# Altium schematic symbol library Connectors.SchLib: 325 symbols (part 2 of 4)
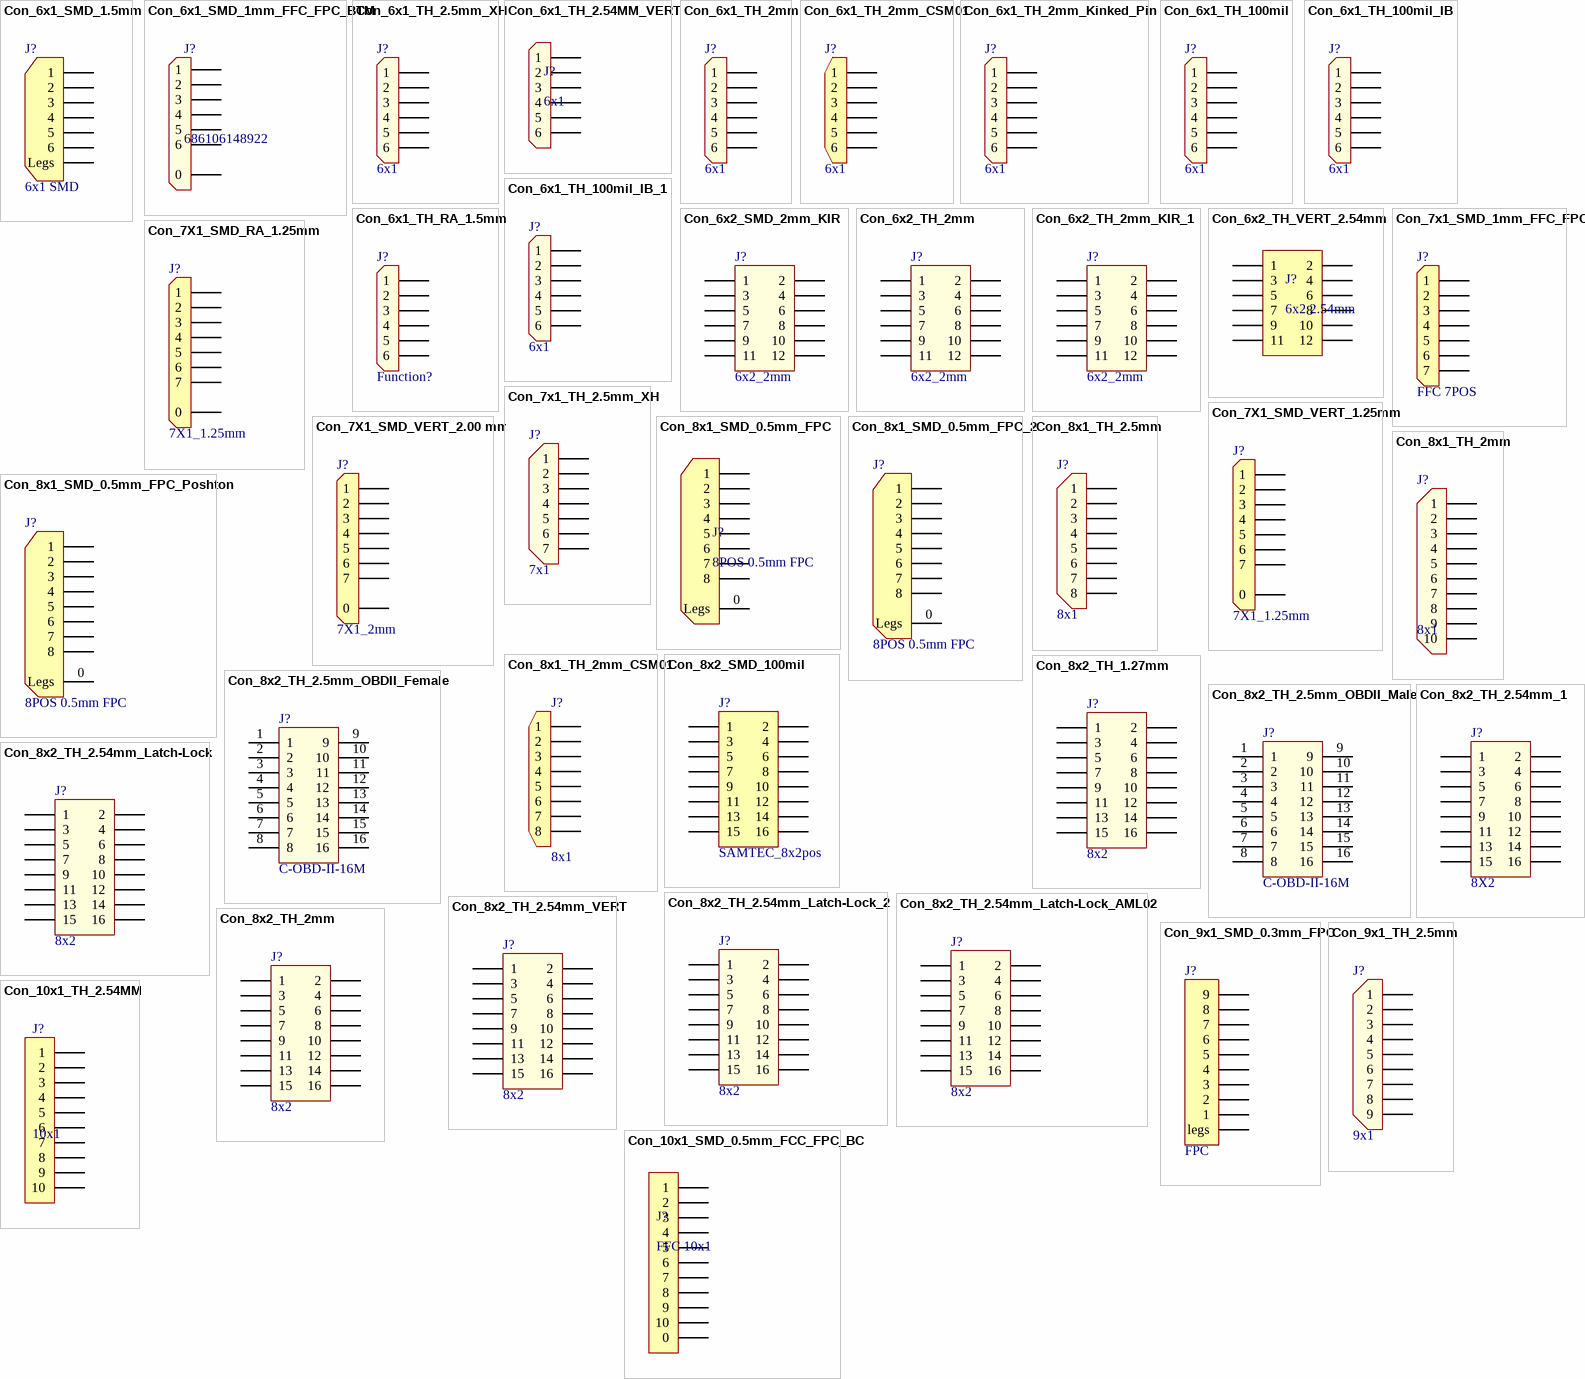
[diagram p10: symbols Con_6x1_SMD_1.5mm to Con_10x1_TH_2.54MM]

## Con_6x2_TH_2mm
designator J?, comment 6x2_2mm
CONN HEADER VERT 12POS 2MM; Manufacturer Part Number: 957212-6002-AR; Manufacturer: 3M; ComponentLink1URL: https://www.digikey.com/products/en?keywords=957212-6002-AR; Last modified date: 20240310; Last modified by: J.Jaramillo; Reel Stock: N/A; Supplier 1: Digi-Key; Supplier Part Number 1: 3M6475-ND; ComponentLink1Description: Digi-key; ComponentLink1URL: https://www.digikey.tw/products/en?keywords=3M6475-ND
footprint CON_6x2_TH_2MM (/ 20190410 / C-D.Viveros)
pins: 1, 2, 3, 4, 5, 6, 7, 8, 9, 10, 11, 12

## Con_6x2_TH_2mm_KIR_1
designator J?, comment 6x2_2mm
CONN HEADER VERT 12POS 2MM; Manufacturer Part Number: 957212-6002-AR; Manufacturer: 3M; ComponentLink1URL: https://www.digikey.com/products/en?keywords=957212-6002-AR; Last modified date: 20240310; Last modified by: J.Jaramillo; Reel Stock: N/A; Supplier 1: Digi-Key; Supplier Part Number 1: 3M6475-ND; ComponentLink1Description: Digi-key; ComponentLink1URL: https://www.digikey.tw/products/en?keywords=3M6475-ND
footprint CON_6x2_TH_2MM (/ 20190410 / C-D.Viveros)
pins: 1, 2, 3, 4, 5, 6, 7, 8, 9, 10, 11, 12

## Con_6x2_TH_VERT_2.54mm
designator J?, comment 6x2 2.54mm
CONN HEADER VERT 12POS 2.54MM; Manufacturer: Molex; Manufacturer Part Number: 0702461201; Supplier 1: Digi-Key; Supplier Part Number 1: 23-0702461201-ND; Reel Stock: N/A; Last modified by: J.Jaramillo; Last modified date: 20240310; ComponentLink1Description: Digi-Key; ComponentLink1URL: https://www.digikey.com/en/products/detail/molex/0702461201/760167?s=N4IgTCBcDaIOwAYwBYBsBaAjGBmQF0BfIA
footprint CON_6x2_TH_2.54MM (/20221117/J-A.Sepulveda)
pins: 1, 2, 3, 4, 5, 6, 7, 8, 9, 10, 11, 12

## Con_7x1_SMD_1mm_FFC_FPC
designator J?, comment FFC 7POS
CONN FPC TOP 7POS 1.00MM R/A; Manufacturer Part Number: 84953-7; Manufacturer: TE Connectivity AMP Connectors; Supplier Part Number 1: A101401CT-ND; Supplier 1: Digi-Key; ComponentLink1URL: https://www.digikey.com/en/products/detail/te-connectivity-amp-connectors/84953-7/2272440?s=N4IgTCBcDaIIIEYAMCAsKDCAVAtAOQBEQBdAXyA; Last modified date: 20240310; Last modified by: J.Jaramillo; Reel Stock: N/A; ComponentLink1Description: Digi-key; ComponentLink1URL: https://www.digikey.com/products/en?keywords=A101401CT-ND
footprint CON_7x1_SMD_1mm_FCC (/ 20190222 / C-A.Serna.A)
pins: 1, 2, 3, 4, 5, 6, 7

## Con_7X1_SMD_RA_1.25mm
designator J?, comment 7X1_1.25mm
CONN HEADER SMD R/A 7POS 1.25MM; Manufacturer: Molex; Manufacturer Part Number: 0532610771; Alternate: 20210723; Supplier 1: Digi-Key; Supplier Part Number 1: WM7625CT-ND; Reel Stock: N/A; Last modified by: J.Jaramillo; Last modified date: 20240310; ComponentLink1Description: Digi-Key; ComponentLink1URL: https://www.digikey.com/en/products/detail/molex/0532610771/699099?s=N4IgTCBcDaIOoFkDsA2MBWAwgFQLQDkAREAXQF8g
footprint CON_7X1_SMD_1.25MM (20201125 / C-D Viveros)
footprint CON_7X1_SMD_1.25MM_ENS01 (/ 20220502 / J-E.Pachon)
pins: 0, 1, 2, 3, 4, 5, 6, 7

## Con_7X1_SMD_VERT_1.25mm
designator J?, comment 7X1_1.25mm
CONN HEADER SMD 7POS 1.25MM; Manufacturer: Molex; Manufacturer Part Number: 0533980771; Supplier 1: Digi-Key; Supplier Part Number 1: WM7611CT-ND; Reel Stock: N/A; Last modified by: J.Jaramillo; Last modified date: 20240310; ComponentLink1Description: Digi-Key; ComponentLink1URL: https://www.digikey.com/en/products/detail/molex/0533980771/699071
footprint CON_7X1_SMD_VERT_1.25MM (/ 20220216 / J-E.Pachon)
footprint CON_7X1_SMD_VERT_1.25MM_ENS01 (/ 20220502 / J-E.Pachon)
pins: 0, 1, 2, 3, 4, 5, 6, 7

## Con_7X1_SMD_VERT_2.00 mm
designator J?, comment 7X1_2mm
WR-WTB 2.00 mm SMT Male Vertical Shrouded Header; Manufacturer: Wurth Elektronik; Manufacturer Part Number: 620307124022; Supplier 1: NA. KBS01; Supplier Part Number 1: 620307124022; Reel Stock: N/A; Last modified by: J.Jaramillo; Last modified date: 20240310; ComponentLink1Description: Wurth; ComponentLink1URL: https://www.we-online.com/catalog/en/WTB_2_00_SMT_MALE_VERTICAL_SHROUDED_HEADER_6203XX124022?sq=620307124022&sp=https%3A%2F%2Fwww.we-online.com%2Fweb%2Fen%2Fwuerth_elektronik%2Fsearchpage.php%3Fsearch%3D620307124022#620307124022
footprint CON_7X1_SMD_VERT_2MM_KBS01 (/ 20220810/ C-E.Rincon)
pins: 0, 1, 2, 3, 4, 5, 6, 7

## Con_7x1_TH_2.5mm_XH
designator J?, comment 7x1
CONN HEADER VERT 7POS 2.5MM; Manufacturer: JST Sales America Inc.; Manufacturer Part Number: B7B-XH-A(LF)(SN); Supplier 1: Digi-Key; Supplier Part Number 1: 455-2252-ND; Reel Stock: N/A; Last modified by: J.Jaramillo; Last modified date: 20240310; ComponentLink1Description: Digi-Key; ComponentLink1URL: https://www.digikey.com/en/products/detail/jst-sales-america-inc/B7B-XH-A-LF-SN/1651050
footprint CON_7X1_TH_2.5MM_XH (/E.Naranjo / 20220216)
pins: 1, 2, 3, 4, 5, 6, 7

## Con_8x1_SMD_0.5mm_FPC
designator J?, comment 8POS 0.5mm FPC
CONN FFC FPC TOP 8POS 0.5MM R/A; Manufacturer: Amphenol ICC (FCI); Manufacturer Part Number: SFV8R-2STE9HLF; Supplier 1: Digi-Key; Supplier Part Number 1: 609-4949-1-ND; Reel Stock: N/A; Last modified by: J.Jaramillo; Last modified date: 20240310; ComponentLink1Description: Digi-Key; ComponentLink1URL: https://www.digikey.com/en/products/detail/amphenol-cs-fci/SFV8R-2STE9HLF/4270800
footprint Con_8x1_SMD_0.5mm_FPC (/20230620/J-A.Sepulveda)
pins: 0 Legs, 1, 2, 3, 4, 5, 6, 7, 8

## Con_8x1_SMD_0.5mm_FPC_2
designator J?, comment 8POS 0.5mm FPC
CONN FFC FPC 8POS 0.5MM R/A; Manufacturer Part Number: 5034800800; Manufacturer: Molex; Supplier Part Number 1: WM1388CT-ND; Supplier 1: Digi-Key; ComponentLink1URL: https://www.digikey.com/product-detail/en/molex/5034800800/WM1388CT-ND/2356642; Last modified date: 20240310; Last modified by: J.Jaramillo; Reel Stock: N/A; ComponentLink1Description: Digi-key; ComponentLink1URL: https://www.digikey.com/products/en?keywords=A101401CT-ND
footprint Con_8x1_SMD_0.5mm_FPC_2 (5034800800 / 20230914 / H-D.Garcia)
pins: 0 Legs, 1, 2, 3, 4, 5, 6, 7, 8

## Con_8x1_SMD_0.5mm_FPC_Poshton
designator J?, comment 8POS 0.5mm FPC
CONN FFC FPC 8POS 0.5MM R/A; Manufacturer Part Number: 0.5-8P-H2.0-后压; Manufacturer: XXLCONN; Supplier Part Number 1: 0.5-8P-H2.0-后压; Supplier 1: Poshton; Last modified date: 20240310; Last modified by: J.Jaramillo; Reel Stock: N/A; ComponentLink1URL: https://www.digikey.com/products/en?keywords=A101401CT-ND
footprint CON_8X1_SMD_0.5MM_FPC_Poshton (0.5-8P-H2.0-?? / 20230914 / H-D.Garcia)
pins: 0 Legs, 1, 2, 3, 4, 5, 6, 7, 8

## Con_8x1_TH_2.5mm
designator J?, comment 8x1
CONN HEADER VERT 8POS 2.5MM; Manufacturer: JST Sales America Inc.; Manufacturer Part Number: B8B-XH-A(LF)(SN); Supplier 1: Digi-Key; Supplier Part Number 1: 455-2251-ND; Reel Stock: N/A; Last modified by: J.Jaramillo; Last modified date: 20240310; ComponentLink1Description: Digi-Key; ComponentLink1URL: https://www.digikey.com/en/products/detail/jst-sales-america-inc/B8B-XH-A-LF-SN/1651049?s=N4IgTCBcDaIEIA44FoAaAJZBBAFAGQDEBKHAZQDkiQBdAXyA
footprint CON_8X1_TH_2.5MM (20220608 / E.Naranjo)
pins: 1, 2, 3, 4, 5, 6, 7, 8

## Con_8x1_TH_2mm
designator J?, comment 8x1
CONN HEADER VERT 8POS 2MM; Manufacturer: JST Sales America Inc.; Manufacturer Part Number: B12B-PH-KL(LF)(SN); Supplier 1: LCSC; Supplier Part Number 1: C158029; Reel Stock: N/A; Last modified by: J.Jaramillo; Last modified date: 060726; ComponentLink1Description: LCSC; ComponentLink1URL: https://www.lcsc.com/product-detail/C158029.html?spm=wm.fly.bg.0.xh___wm.sxq.ssx.dcs.1&lcsc_vid=QlVWAwYAFgVeVVReQwReXlYDEQcLUgVSRQQLU1NREwMxVlNeRFJXUl1RQ1ddVTsOAxUeFF5JWBYZEEoKFBINSQcJGk4NBhADEA4cHktXQ1VfSQwSGg0%3D; ComponentLink2Description: Datasheet; ComponentLink2URL: https://www.lcsc.com/datasheet/C158029.pdf?spm=wm.sxq.inf.ggs___wm.fly.bg.0.xh&lcsc_vid=QlVWAwYAFgVeVVReQwReXlYDEQcLUgVSRQQLU1NREwMxVlNeRFJXUl1RQ1ddVTsOAxUeFF5JWBYZEEoKFBINSQcJGk4NBhADEA4cHktXQ1VfSQwSGg0%3D
footprint CON_8x1_TH_2MM_VERT (/ 060726 / J.Jaramillo)
pins: 1, 2, 3, 4, 5, 6, 7, 8, 9, 10

## Con_8x1_TH_2mm_CSM01
designator J?, comment 8x1
CONN HEADER R/A 8POS 2MM; Manufacturer Part Number: 440055-8; Manufacturer: TE Connectivity AMP Connectors; Supplier Part Number 1: A100050-ND; Supplier 1: Digi-Key; ComponentLink1URL: https://www.digikey.com/en/products/detail/te-connectivity-amp-connectors/440055-8/2077952; Last modified date: 20240310; Last modified by: J.Jaramillo; Reel Stock: N/A; ComponentLink1Description: Digi-key; ComponentLink1URL: https://www.digikey.com/products/en?keywords=A101401CT-ND
footprint CON_8x1_TH_2mm_CSM01 (/20210118/V-A.Patino)
pins: 1, 2, 3, 4, 5, 6, 7, 8

## Con_8x2_SMD_100mil
designator J?, comment SAMTEC_8x2pos
CONN HEADER SMD R/A 16POS 2.54MM; Manufacturer: Samtec Inc.; Manufacturer Part Number: TSM-108-01-L-DH; Supplier 1: Digi-Key; Supplier Part Number 1: SAM12252-ND; Reel Stock: N/A; Last modified by: J.Jaramillo; Last modified date: 20240310; ComponentLink1Description: Digi-Key; ComponentLink1URL: https://www.digikey.com/product-detail/en/samtec-inc/TSM-108-01-L-DH/SAM12252-ND/6692684
footprint CON_8x2_SMD_100mil (/ 20190606 / J-P.Vargas.A)
pins: 1, 2, 3, 4, 5, 6, 7, 8, 9, 10, 11, 12, 13, 14, 15, 16

## Con_8x2_TH_1.27mm
designator J?, comment 8x2
CONN HEADER VERT 16POS 1.27MM; Manufacturer: CNC Tech; Manufacturer Part Number: 3210-16-001-12-00; Supplier 1: Digi-Key; Supplier Part Number 1: 1175-2193-ND; Reel Stock: N/A; Last modified by: J.Jaramillo; Last modified date: 20240310; ComponentLink1Description: Digi-Key; ComponentLink1URL: https://www.digikey.com/en/products/detail/cnc-tech/3210-16-001-12-00/3882231
footprint CON_8X2_TH_1.27MM (20220223 / E.Naranjo)
pins: 1, 2, 3, 4, 5, 6, 7, 8, 9, 10, 11, 12, 13, 14, 15, 16

## Con_8x2_TH_2.5mm_OBDII_Female
designator J?, comment C-OBD-II-16M
CONN RCPT 16POS R/A SLDR; Manufacturer: Macchina; Manufacturer Part Number: CCBDF205; Supplier 1: Digi-Key; Supplier Part Number 1: 2325-CCBDF205-ND; Reel Stock: N/A; Last modified by: J.Jaramillo; Last modified date: 20240310; ComponentLink1Description: Digi-Key; ComponentLink1URL: https://www.digikey.com/en/products/detail/macchina/CCBDF205/12714661
footprint CON_8X2_TH_C-OBD-II-16F (/ 20201214 / M-C.Calderon)
pins: 1, 2, 3, 4, 5, 6, 7, 8, 9, 10, 11, 12, 13, 14, 15, 16

## Con_8x2_TH_2.5mm_OBDII_Male
designator J?, comment C-OBD-II-16M
CONN PLUG 16POS R/A; Manufacturer: Macchina; Manufacturer Part Number: CCBDM205; Supplier 1: Digi-Key; Supplier Part Number 1: 2325-CCBDM205-ND; Reel Stock: N/A; Last modified by: J.Jaramillo; Last modified date: 20240310; ComponentLink1Description: Digi-Key; ComponentLink1URL: https://www.digikey.com/en/products/detail/macchina/CCBDM205/12714527
footprint CON_8X2_TH_C-OBD-II-16M (/ 20201214 / M-C.Calderon)
pins: 1, 2, 3, 4, 5, 6, 7, 8, 9, 10, 11, 12, 13, 14, 15, 16

## Con_8x2_TH_2.54mm_1
designator J?, comment 8X2
CONN HEADER VERT 16POS 2.54MM; Manufacturer: Molex; Manufacturer Part Number: 0702461604; Supplier 1: Digi-Key; Supplier Part Number 1: WM4053-ND; Reel Stock: N/A; Last modified by: J.Jaramillo; Last modified date: 20240310; ComponentLink1Description: Digi-Key; ComponentLink1URL: https://www.digikey.com/en/products/detail/molex/0702461604/2421571
footprint CON_8X2_TH_2.54MM (/20220107/J-E.Pachon)
pins: 1, 2, 3, 4, 5, 6, 7, 8, 9, 10, 11, 12, 13, 14, 15, 16

## Con_8x2_TH_2.54mm_Latch-Lock
designator J?, comment 8x2
CONN HEADER VERT 16POS 2.54MM; Manufacturer: Assmann WSW Components; Manufacturer Part Number: AWH 16G-0232-T; Supplier 1: Digi-Key; Supplier Part Number 1: AE11072-ND; Reel Stock: N/A; Last modified by: J.Jaramillo; Last modified date: 20240310; ComponentLink1Description: Digi-Key; ComponentLink1URL: https://www.digikey.com/en/products/detail/assmann-wsw-components/AWH-16G-0232-T/5051865
footprint CON_8X2_TH_2.54MM_LATCH-LOCK (20220222 / E.Naranjo)
pins: 1, 2, 3, 4, 5, 6, 7, 8, 9, 10, 11, 12, 13, 14, 15, 16

## Con_8x2_TH_2.54mm_Latch-Lock_2
designator J?, comment 8x2
CONN HEADER VERT 16POS 2.54MM; Manufacturer: Molex; Manufacturer Part Number: 0901301116; Supplier 1: Digi-Key; Supplier Part Number 1: WM8238-ND; Reel Stock: N/A; Last modified by: J.Jaramillo; Last modified date: 20240310; ComponentLink1Description: Digi-Key; ComponentLink1URL: https://www.digikey.com/en/products/detail/molex/0901301116/760950
footprint CON_8X2_TH_2.54MM_LACTH-LOCK_2 (20220225 / E.Naranjo)
pins: 1, 2, 3, 4, 5, 6, 7, 8, 9, 10, 11, 12, 13, 14, 15, 16

## Con_8x2_TH_2.54mm_Latch-Lock_AML02
designator J?, comment 8x2
CONN HEADER VERT 16POS 2.54MM; Manufacturer: Molex; Manufacturer Part Number: 0901301116; Supplier 1: Digi-Key; Supplier Part Number 1: WM8238-ND; Reel Stock: N/A; Last modified by: J.Jaramillo; Last modified date: 20240310; ComponentLink1Description: Digi-Key; ComponentLink1URL: https://www.digikey.com/en/products/detail/molex/0901301116/760950
footprint CON_8X2_TH_2.54MM_LACTH-LOCK_AML02 (20220322 /J-E.Pachon)
pins: 1, 2, 3, 4, 5, 6, 7, 8, 9, 10, 11, 12, 13, 14, 15, 16

## Con_8x2_TH_2.54mm_VERT
designator J?, comment 8x2
CONN HEADER VERT 16POS 2.54MM; Manufacturer: CNC Tech; Manufacturer Part Number: 3010-16-001-12-00; Supplier 1: Digi-Key; Supplier Part Number 1: 1175-2173-ND; Reel Stock: N/A; Last modified by: J.Jaramillo; Last modified date: 20240310; ComponentLink1Description: Digi-Key; ComponentLink1URL: https://www.digikey.com/en/products/detail/cnc-tech/3010-16-001-12-00/3441608
footprint CON_8X2_TH_2.54MM_LATCH-LOCK (20220222 / E.Naranjo)
pins: 1, 2, 3, 4, 5, 6, 7, 8, 9, 10, 11, 12, 13, 14, 15, 16

## Con_8x2_TH_2mm
designator J?, comment 8x2
CONN HEADER VERT 16POS 2MM; Manufacturer: CNC Tech; Manufacturer Part Number: 3110-16-001-13-00; Supplier 1: igi-Key; Supplier Part Number 1: 3110-16-001-13-00-ND; Reel Stock: N/A; Last modified by: J.Jaramillo; Last modified date: 20240310; ComponentLink1Description: Digi-Key; ComponentLink1URL: https://www.digikey.com/en/products/detail/cnc-tech/3110-16-001-13-00/3882350?s=N4IgjCBcoEwBxVAYygMwIYBsDOBTANCAPZQDaIAzAKzUAMA7CALqEAOALlCAMrsBOASwB2AcxABfQgDYAnIhApIGHAWJkQAFjBg4MxixAcuvQaImE4CaArRY8hEpHJhaFei%2BZtOkHv2FjJEBlaeUVlezUncBgwChgpT0NvX1MAwhkIazC7VUdyOLApGApEox8Tf3MQKjAYUNsVB3U3WJpS5IqzQJqrZAaIvMopCilLduM-LsIwemD6pRymqLgNXXHyybTwGTWs-tz1EIMylMrAgFoqefCDqJnmcUegA
footprint CON_8X2_TH_2MM (20220222 / E.Naranjo)
pins: 1, 2, 3, 4, 5, 6, 7, 8, 9, 10, 11, 12, 13, 14, 15, 16

## Con_9x1_SMD_0.3mm_FPC
designator J?, comment FPC
CONN FPC 9POS .3MM; Manufacturer: Hirose Electric Co Ltd; Manufacturer Part Number: FH35C-9S-0.3SHW(10); Supplier 1: Digi-Key; Supplier Part Number 1: FH35C-9S-0.3SHW(10)-ND; Reel Stock: N/A; Last modified by: J.Jaramillo; Last modified date: 20240310; ComponentLink1Description: Digi-Key; ComponentLink1URL: https://www.digikey.com/en/products/detail/hirose-electric-co-ltd/FH35C-9S-0-3SHW-10/5132552
footprint CON_9X1_SMD_0.3mm_FPC (20211217 / E.Naranjo)
pins: 0 legs, 1, 2, 3, 4, 5, 6, 7, 8, 9

## Con_9x1_TH_2.5mm
designator J?, comment 9x1
CONN HEADER VERT 9POS 2.5MM; Manufacturer: JST Sales America Inc.; Manufacturer Part Number: B9B-XH-A(LF)(SN); Supplier 1: Digi-Key; Supplier Part Number 1: 455-2244-ND; Reel Stock: N/A; Last modified by: J.Jaramillo; Last modified date: 20240310; ComponentLink1Description: Digi-Key; ComponentLink1URL: https://www.digikey.com/en/products/detail/jst-sales-america-inc/B9B-XH-A-LF-SN/1651042?s=N4IgTCBcDaIEIE44FoAaAJZBBAFAGQDEBKHAZQDkiQBdAXyA
footprint CON_9X1_TH_2.5MM (20220608 / E.Naranjo)
pins: 1, 2, 3, 4, 5, 6, 7, 8, 9

## Con_10x1_SMD_0.5mm_FCC_FPC_BC
designator J?, comment FFC 10x1
CONN FFC BOTTOM 10POS 0.5MM R/A; Manufacturer: Hirose Electric Co Ltd; Manufacturer Part Number: FH12-10S-0.5SH(55); Supplier 1: Digi-Key; Supplier Part Number 1: HFJ110CT-ND; Reel Stock: N/A; Last modified by: J.Jaramillo; Last modified date: 20240310; ComponentLink1Description: Digi-Key; ComponentLink1URL: https://www.digikey.com/es/products/detail/hirose-electric-co-ltd/FH12-10S-0-5SH-55/1110314
footprint Con_10x1_SMD_0.5MM_FPC (/20230907/J-E.Pachon)
pins: 0, 1, 2, 3, 4, 5, 6, 7, 8, 9, 10

## Con_10x1_TH_2.54MM
designator J?, comment 10x1
CONN HEADER VERT 10POS 2.54MM; Manufacturer Part Number: 0022232101; Manufacturer: Molex; Last modified by: J.Jaramillo; Last modified date: 20240310; Reel Stock: N/A; Supplier 1: Digi-Key; Supplier Part Number 1: WM4208-ND; ComponentLink1Description: Digi-Key; ComponentLink1URL: https://www.digikey.com/en/products/detail/molex/0022232101/26683
footprint CON_10X1_TH_2.54MM (/20200110/V-A.Patino)
pins: 1, 2, 3, 4, 5, 6, 7, 8, 9, 10

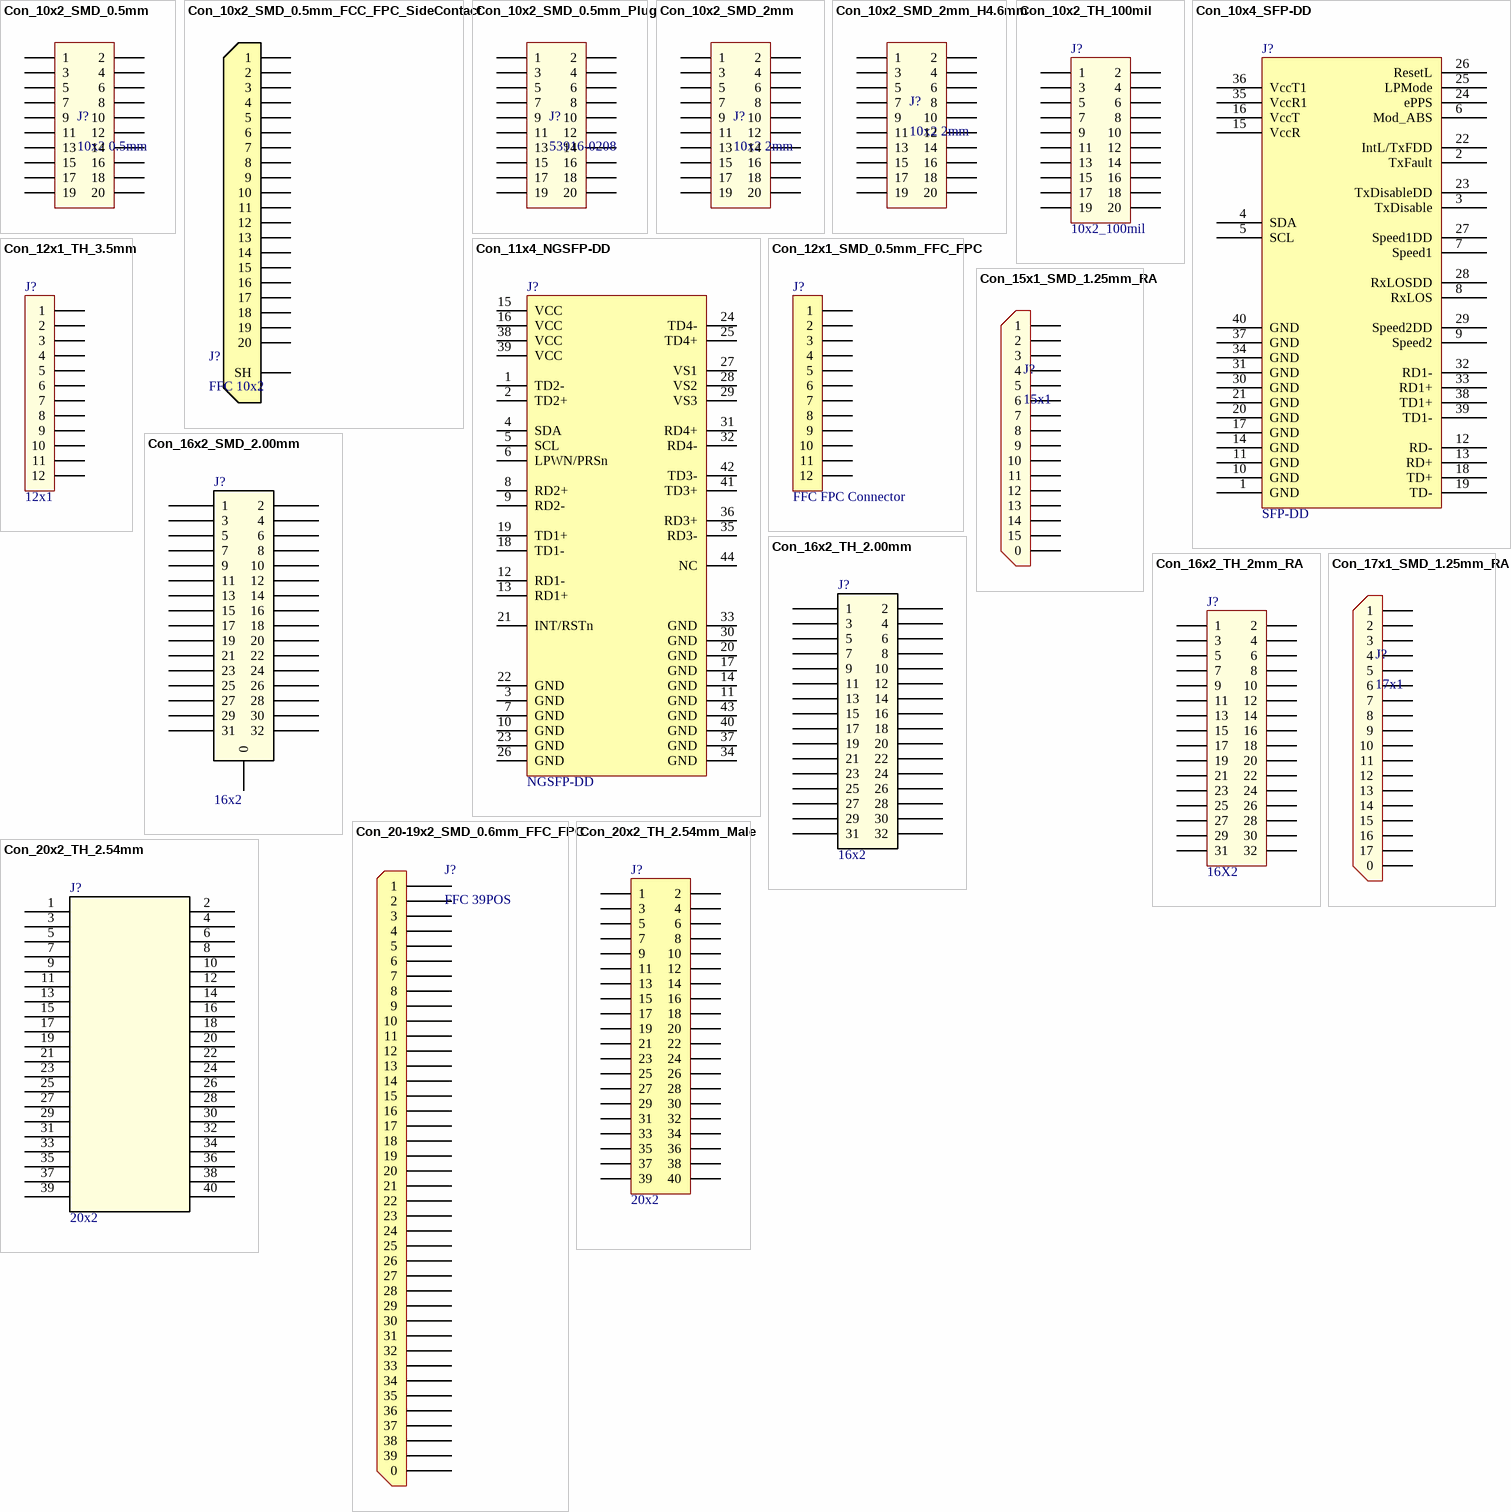
[diagram p3: symbols Con_10x2_SMD_0.5mm to Con_20x2_TH_2.54mm_Male]

## Con_10x2_SMD_0.5mm
designator J?, comment 10x2 0.5mm
CONN RCPT 20POS SMD GOLD; Manufacturer: Digi-Key; Manufacturer Part Number: 0541670208; Supplier 1: Digi-Key; Supplier Part Number 1: WM4522CT-ND; Reel Stock: N/A; Last modified by: J.Jaramillo; Last modified date: 20240310; ComponentLink1Description: Digi-Key; ComponentLink1URL: https://www.digikey.com/en/products/detail/molex/0541670208/413617
footprint Con_10x2_SMD_0.5mm (/20230217/N-A.potosi)
pins: 1, 2, 3, 4, 5, 6, 7, 8, 9, 10, 11, 12, 13, 14, 15, 16, 17, 18, 19, 20

## Con_10x2_SMD_0.5mm_FCC_FPC_SideContact
designator J?, comment FFC 10x2
CONN FFC FPC 20POS 0.5mm VERTICAL - 1 SIDED CNT SMD; Manufacturer: ZGWD; Manufacturer Part Number: WL0540013-200R-001; Supplier 1: LCSC; Supplier Part Number 1: C48736339; Reel Stock: N/A; Last modified by: J.Jaramillo; Last modified date: 160726; ComponentLink1Description: LCSC; ComponentLink1URL: https://www.lcsc.com/product-detail/C48736339.html?spm=wm.fly.bg.12.xh___wm.fly.tp.1.ml&lcsc_vid=RFVfBQZXEwNdBF0EFVEKUl0EQVZaUV0EQQdaUQBXR1YxVlNeQ1NbUlNQR1BeUDsOAxUeFF5JWBYZEEoKFBINSQcJGk4NBhADEA4cHktXQVBADxALGw%3D%3D; ComponentLink2Description: Datasheet; ComponentLink2URL: https://www.lcsc.com/datasheet/C48736339.pdf?spm=wm.sxq.inf.ggs___wm.fly.bg.12.xh&lcsc_vid=RFVfBQZXEwNdBF0EFVEKUl0EQVZaUV0EQQdaUQBXR1YxVlNeQ1NbUlNQR1BeUDsOAxUeFF5JWBYZEEoKFBINSQcJGk4NBhADEA4cHktXQVBADxALGw%3D%3D
footprint Con_10x2_SMD_0.5mm_FCC_FPC_SideContact (/ 160726 /  J.Jaramillo)
pins: 1, 2, 3, 4, 5, 6, 7, 8, 9, 10, 11, 12, 13, 14, 15, 16, 17, 18, 19, 20, SH

## Con_10x2_SMD_0.5mm_Plug
designator J?, comment 53916-0208
0.5 B/B PLUG OVERMOLD E-T 539160; Manufacturer: Digi-Key; Manufacturer Part Number: 53916-0208; Supplier 1: Digi-Key; Supplier Part Number 1: 2266-53916-0208-ND; Reel Stock: N/A; Last modified by: J.Jaramillo; Last modified date: 20240310; ComponentLink1Description: Digi-Key; ComponentLink1URL: https://www.digikey.com/en/products/detail/wec/53916-0208/14736001
footprint Con_10x2_SMD_0.5mm_Plug (/20230217/N-A.potosi)
pins: 1, 2, 3, 4, 5, 6, 7, 8, 9, 10, 11, 12, 13, 14, 15, 16, 17, 18, 19, 20

## Con_10x2_SMD_2mm
designator J?, comment 10x2 2mm
CONN RCPT 20POS 0.079 GOLD SMD; Manufacturer: Digi-Key; Manufacturer Part Number: 0791091009; Supplier 1: Digi-Key; Supplier Part Number 1: WM18705-ND; Reel Stock: N/A; Last modified by: J.Jaramillo; Last modified date: 20240310; ComponentLink1Description: Digi-Key; ComponentLink1URL: https://www.digikey.com/en/products/detail/molex/0791091009/699239?s=N4IgTCBcDaIOwE4CMAGZK0gLoF8g
footprint Con_10x2_SMD_2mm (/20230119/J-A.Sepulveda)
pins: 1, 2, 3, 4, 5, 6, 7, 8, 9, 10, 11, 12, 13, 14, 15, 16, 17, 18, 19, 20

## Con_10x2_SMD_2mm_H4.6mm
designator J?, comment 10x2 2mm
CONN RCPT 20POS 2MM SMD; Manufacturer: RealRun; Manufacturer Part Number: FH2.0*4.3-4.0-2*10T K4.5 W6.15 6T 金1U (WITH POST); Supplier 1: Poshton; Supplier Part Number 1: FH2.0*4.3-4.0-2*10T K4.5 W6.15 6T 金1U (WITH POST); Reel Stock: N/A; Last modified by: J.Jaramillo; Last modified date: 20240310; ComponentLink1Description: Datasheet; ComponentLink1URL: https://drive.google.com/file/d/1bCl_B4BdR7_gMDE8k6Nv6ofcjAXHje4v/view?usp=drive_link
footprint Con_10x2_SMD_2MM_H4.6MM (/20230621/J-A.Sepulveda)
pins: 1, 2, 3, 4, 5, 6, 7, 8, 9, 10, 11, 12, 13, 14, 15, 16, 17, 18, 19, 20

## Con_10x2_TH_100mil
designator J?, comment 10x2_100mil
CONN HEADER VERT 20POS 2.54MM; Manufacturer Part Number: 61202021621; Manufacturer: Würth Elektronik; ComponentLink1URL: https://www.digikey.com/product-detail/en/wurth-electronics-inc/61202021621/732-2096-ND/2060592; Last modified date: 20240310; Last modified by: J.Jaramillo; Reel Stock: N/A; Supplier 1: Digi-Key; Supplier Part Number 1: 732-2096-ND; ComponentLink1Description: Digi-key; ComponentLink1URL: https://www.digikey.tw/products/en?keywords=3M6475-ND
footprint Con_10x2_TH_100mil (/ 20191007 / J-P.Vargas.A)
pins: 1, 2, 3, 4, 5, 6, 7, 8, 9, 10, 11, 12, 13, 14, 15, 16, 17, 18, 19, 20

## Con_10x4_SFP-DD
designator J?, comment SFP-DD
SFP-DD RECEPTACLE ASSEMBLY; Manufacturer: TE Connectivity AMP Connectors; Manufacturer Part Number: 2325864-1; Supplier 1: Digi-key; Supplier Part Number 1: 17-2325864-1CT-ND; Reel Stock: N/A; Last modified by: J.Jaramillo; Last modified date: 20240310; ComponentLink1Description: Digi-key; ComponentLink1URL: https://www.digikey.com/en/products/detail/te-connectivity-amp-connectors/2325864-1/13170993?s=N4IgTCBcDa4MxgKwA4BsAWAtARhAXQF8g; ComponentLink2Description: Datasheet; ComponentLink2URL: https://www.te.com/commerce/DocumentDelivery/DDEController?Action=showdoc&DocId=Customer+Drawing%7F2325864%7FA1%7Fpdf%7FEnglish%7FENG_CD_2325864_A1.pdf%7F2325864-1
footprint CON_10x4_SFP-DD (/20220329/V-A.Patino)
pins: 1 GND, 2 TxFault, 3 TxDisable, 4 SDA, 5 SCL, 6 Mod_ABS, 7 Speed1, 8 RxLOS, 9 Speed2, 10 GND, 11 GND, 12 RD-, 13 RD+, 14 GND, 15 VccR, 16 VccT, 17 GND, 18 TD+, 19 TD-, 20 GND, 21 GND, 22 IntL/TxFDD, 23 TxDisableDD, 24 ePPS, 25 LPMode, 26 ResetL, 27 Speed1DD, 28 RxLOSDD, 29 Speed2DD, 30 GND, 31 GND, 32 RD1-, 33 RD1+, 34 GND, 35 VccR1, 36 VccT1, 37 GND, 38 TD1+, 39 TD1-, 40 GND

## Con_11x4_NGSFP-DD
designator J?, comment NGSFP-DD
NGSFP-DD Connector; Manufacturer: Yamaichi Electronics; Manufacturer Part Number: CN109S-044-0001; Supplier 1: Yamaichi Electronics; Supplier Part Number 1: CN109S-044-0001; Reel Stock: N/A; Last modified by: J.Jaramillo; Last modified date: 20240310; ComponentLink1Description: Datasheet; ComponentLink1URL: http://www.ngsfpmsa.com/index.php?s=/Show/index/cid/15/id/6.html
footprint CON_11X4_NGSFP-DD (20220407 / E.Naranjo)
pins: 1 TD2-, 2 TD2+, 3 GND, 4 SDA, 5 SCL, 6 LPWN/PRSn, 7 GND, 8 RD2+, 9 RD2-, 10 GND, 11 GND, 12 RD1-, 13 RD1+, 14 GND, 15 VCC, 16 VCC, 17 GND, 18 TD1-, 19 TD1+, 20 GND, 21 INT/RSTn, 22 GND, 23 GND, 24 TD4-, 25 TD4+, 26 GND, 27 VS1, 28 VS2, 29 VS3, 30 GND, 31 RD4+, 32 RD4-, 33 GND, 34 GND, 35 RD3-, 36 RD3+, 37 GND, 38 VCC, 39 VCC, 40 GND, 41 TD3+, 42 TD3-, 43 GND, 44 NC

## Con_12x1_SMD_0.5mm_FFC_FPC
designator J?, comment FFC FPC Connector
CONN FFC FPC BOTTOM 12POS 0.50MM R/A; Manufacturer: Molex; Manufacturer Part Number: 0527461233; Supplier Part Number 1: WM14346CT-ND; Reel Stock: N/A; Last modified by: J.Jaramillo; Last modified date: 20240310; ComponentLink1Description: Digi-Key; ComponentLink1URL: https://www.digikey.com/products/en?keywords=WM14346CT-ND; Supplier 1: Digi-Key
footprint CON_12x1_SMD_0.5mm_FCC (/ 20200612 / J-E.Pachon)
pins: 1, 2, 3, 4, 5, 6, 7, 8, 9, 10, 11, 12

## Con_12x1_TH_3.5mm
designator J?, comment 12x1
TERM BLOCK HDR 12POS VERT 3.5MM; Manufacturer: Molex; Manufacturer Part Number: 0395011012; Supplier 1: Digi-Key; Supplier Part Number 1: WM7761-ND; Reel Stock: N/A; Last modified by: J.Jaramillo; Last modified date: 20240310; ComponentLink1Description: Digi-Key; ComponentLink1URL: https://www.digikey.com/en/products/detail/molex/0395011012/1280612?s=N4IgTCBcDaIAwGYCcBWOBGdGIF0C%2BQA
footprint CON_12X1_TH_TERM-BLOCK (/20220603/F-A.Ospina)
pins: 1, 2, 3, 4, 5, 6, 7, 8, 9, 10, 11, 12

## Con_15x1_SMD_1.25mm_RA
designator J?, comment 15x1
CONN HEADER SMD R/A 15POS 1.25MM; Manufacturer: Molex; Manufacturer Part Number: 0532611571; Supplier 1: Digi-Key; Supplier Part Number 1: WM7632CT-ND; Reel Stock: N/A; Last modified by: J.Jaramillo; Last modified date: 20240310; ComponentLink1Description: Digi-Key; ComponentLink1URL: https://www.digikey.com/en/products/detail/molex/0532611571/699106
footprint Con_15x1_SMD_1.25MM_RA (/20230802/J-A.Sepulveda)
pins: 0, 1, 2, 3, 4, 5, 6, 7, 8, 9, 10, 11, 12, 13, 14, 15

## Con_16x2_SMD_2.00mm
designator J?, comment 16x2
CONN RCPT 32POS 0.079 TIN SMD; Manufacturer: Hirose Electric Co Ltd; Manufacturer Part Number: DF11Z-32DS-2V(20); Supplier 1: Digi-Key; Supplier Part Number 1: H10211-ND; Reel Stock: N/A; Last modified by: J.Jaramillo; Last modified date: 20240310; ComponentLink1Description: Digi-Key; ComponentLink1URL: https://www.digikey.com/en/products/detail/hirose-electric-co-ltd/DF11Z-32DS-2V-20/934329?s=N4IgTCBcDaIBIEYAMYEILQDkAiIC6AvkA
footprint Con_16x2_SMD_2MM (/20220629/F-A.Ospina)
pins: 0, 1, 2, 3, 4, 5, 6, 7, 8, 9, 10, 11, 12, 13, 14, 15, 16, 17, 18, 19, 20, 21, 22, 23, 24, 25, 26, 27, 28, 29, 30, 31, 32

## Con_16x2_TH_2.00mm
designator J?, comment 16x2
CONN RCPT 32POS 0.079 TIN PCB; Manufacturer: Hirose Electric Co Ltd; Manufacturer Part Number: DF11-32DS-2DSA(05); Supplier 1: Digi-Key; Supplier Part Number 1: H10182-ND; Reel Stock: N/A; Last modified by: J.Jaramillo; Last modified date: 20240310; ComponentLink1Description: Digi-Key; ComponentLink1URL: https://www.digikey.com/en/products/detail/hirose-electric-co-ltd/DF11-32DS-2DSA-05/934299?s=N4IgTCBcDaICIDECMSC0BmMcDKqvYEEAKABgFYBKEAXQF8g
footprint Con_16x2_Th_2MM (/20220519/F-A.Ospina)
pins: 1, 2, 3, 4, 5, 6, 7, 8, 9, 10, 11, 12, 13, 14, 15, 16, 17, 18, 19, 20, 21, 22, 23, 24, 25, 26, 27, 28, 29, 30, 31, 32

## Con_16x2_TH_2mm_RA
designator J?, comment 16X2
CONN HEADER R/A 32POS 2MM; Manufacturer: Hirose Electric Co Ltd; Manufacturer Part Number: DF11-32DP-2DS(24); Supplier 1: Digi-key; Supplier Part Number 1: H10258-ND; Reel Stock: N/A; Last modified by: J.Jaramillo; Last modified date: 20240310; ComponentLink1Description: Digi-key; ComponentLink1URL: https://www.digikey.com/en/products/detail/hirose-electric-co-ltd/DF11-32DP-2DS-24/934375?s=N4IgTCBcDaICIDECMSC0BmMcAKqsGUAKMAFgEoQBdAXyA
footprint Con_16x2_Th_2MM_RA (/20220519/F-A.Ospina)
pins: 1, 2, 3, 4, 5, 6, 7, 8, 9, 10, 11, 12, 13, 14, 15, 16, 17, 18, 19, 20, 21, 22, 23, 24, 25, 26, 27, 28, 29, 30, 31, 32

## Con_17x1_SMD_1.25mm_RA
designator J?, comment 17x1
CONN HEADER SMD R/A 17POS 1.25MM; Manufacturer: Molex; Manufacturer Part Number: 0532611771; Supplier 1: Digi-Key; Supplier Part Number 1: WM10108CT-ND; Reel Stock: N/A; Last modified by: J.Jaramillo; Last modified date: 20240310; ComponentLink1Description: Digi-Key; ComponentLink1URL: https://www.digikey.com/en/products/detail/molex/0532611771/3263151?s=N4IgjCBcoKxaBjKAzAhgGwM4FMA0IB7KAbRABYAGGCsskAXXwAcAXKEAZRYCcBLAOwDmIAL74ATAA54IJJDRY8hEiADMMdRQDsDZm0iceA4WJAA2VTLkKc%2BIpFIRGIVuy58ho-GbNWUGW2UHcF0XfUMPE28ATj95AKV7UkposnEKUNcDd2MvEElpaFl-RTsVMApJaK0M5yyI3NNojKLrBLLg1WifODrwnM8miFaSwKS1cTAzcUs%2BtyNBiRhxOJtE8sz%2BhajyKlX2oNJVKejo2b15yLyYMBWR%2BNLDtS0wVWPNy8b8G8LEUfXOqpJOIyL0LtlttczHR7msOkdblpQR8IVdTDAqvtHuNKNQKCs5qivuZqlixhtCQ1FiBmpZYQccWAtNMdJSBjsKpIYX8HuTOpIzDAyLE2ZDTLcLGSAY4UVSOWYzlL4c8CjAwWFPtSmc0lU8zFzpKK0fhtcMeXCnmRbjNWeC5XltXdzQyVOkaJJbRqiVqtNE4PTsSoreIbbL2Q7fb4A3yZUbiWBopjo9KQLVTOkwGbiryU111LQw2KJBRbrrxk47eH0yXftmLeXEbVK0WQOlJmWg-imZ76lXiyGO8EK177dWZoOjgUugTm8bW-juXWXUPC3O2-7nYGV3HqQBaLNtLekcf0Uy7xeHmNqNWss8bpdHkISEASMizM86ZPK15aDQUXAniIQFAA
footprint Con_17x1_SMD_1.25MM_RA (/20230824/J-E.Pachon)
pins: 0, 1, 2, 3, 4, 5, 6, 7, 8, 9, 10, 11, 12, 13, 14, 15, 16, 17

## Con_20-19x2_SMD_0.6mm_FFC_FPC
designator J?, comment FFC 39POS
CONN FPC TOP 39POS 0.60MM; Manufacturer: Hirose; Manufacturer Part Number: FH26-39S-0.3SHW; Supplier 1: NODKA; Supplier Part Number 1: FH26-39S-0.3SHW; Reel Stock: N/A; Last modified by: E.Naranjo; Last modified date: 20240310; ComponentLink1Description: Datasheet; ComponentLink1URL: https://drive.google.com/file/d/1cNqiADA5hR1O3OtUil1I6YKaaUbs80lV/view?usp=drive_link
footprint CON_20-19X2_SMD_0.6MM_FFC_FPC (20230728 / E.Naranjo)
pins: 0, 1, 2, 3, 4, 5, 6, 7, 8, 9, 10, 11, 12, 13, 14, 15, 16, 17, 18, 19, 20, 21, 22, 23, 24, 25, 26, 27, 28, 29, 30, 31, 32, 33, 34, 35, 36, 37, 38, 39

## Con_20x2_TH_2.54mm
designator J?, comment 20x2
CONN RCPT 40POS 0.1 GOLD PCB; Manufacturer: Molex; Manufacturer Part Number: 0015445840; Supplier 1: Digi-Key; Supplier Part Number 1: WM4455-ND; Reel Stock: N/A; Last modified by: J.Jaramillo; Last modified date: 20240310; ComponentLink1Description: Digi-Key; ComponentLink1URL: https://www.digikey.com/en/products/detail/molex/0015445840/2421527?s=N4IgTCBcDaIMIHsB2SCmBjALggTgAgFkEAbVADzwEYBWAWgBZ7bqAOegBhAF0BfIA
footprint CON_2X20_2.54MM_TH (/20220114/J-E.Pachon)
pins: 1, 2, 3, 4, 5, 6, 7, 8, 9, 10, 11, 12, 13, 14, 15, 16, 17, 18, 19, 20, 21, 22, 23, 24, 25, 26, 27, 28, 29, 30, 31, 32, 33, 34, 35, 36, 37, 38, 39, 40

## Con_20x2_TH_2.54mm_Male
designator J?, comment 20x2
CONN HEADER VERT 40POS 2.54MM; Manufacturer: On Shore Technology Inc.; Manufacturer Part Number: 302-S401; Supplier 1: Digi-Key; Supplier Part Number 1: ED10529-ND; Reel Stock: N/A; Last modified by: J.Jaramillo; Last modified date: 20240310; ComponentLink1Description: Digi-Key; ComponentLink1URL: https://www.digikey.com/en/products/detail/on-shore-technology-inc/302-S401/2794240
footprint CON_20X2_2.54MM_TH_MALE (/20230220/N-A.Potosi)
pins: 1, 2, 3, 4, 5, 6, 7, 8, 9, 10, 11, 12, 13, 14, 15, 16, 17, 18, 19, 20, 21, 22, 23, 24, 25, 26, 27, 28, 29, 30, 31, 32, 33, 34, 35, 36, 37, 38, 39, 40

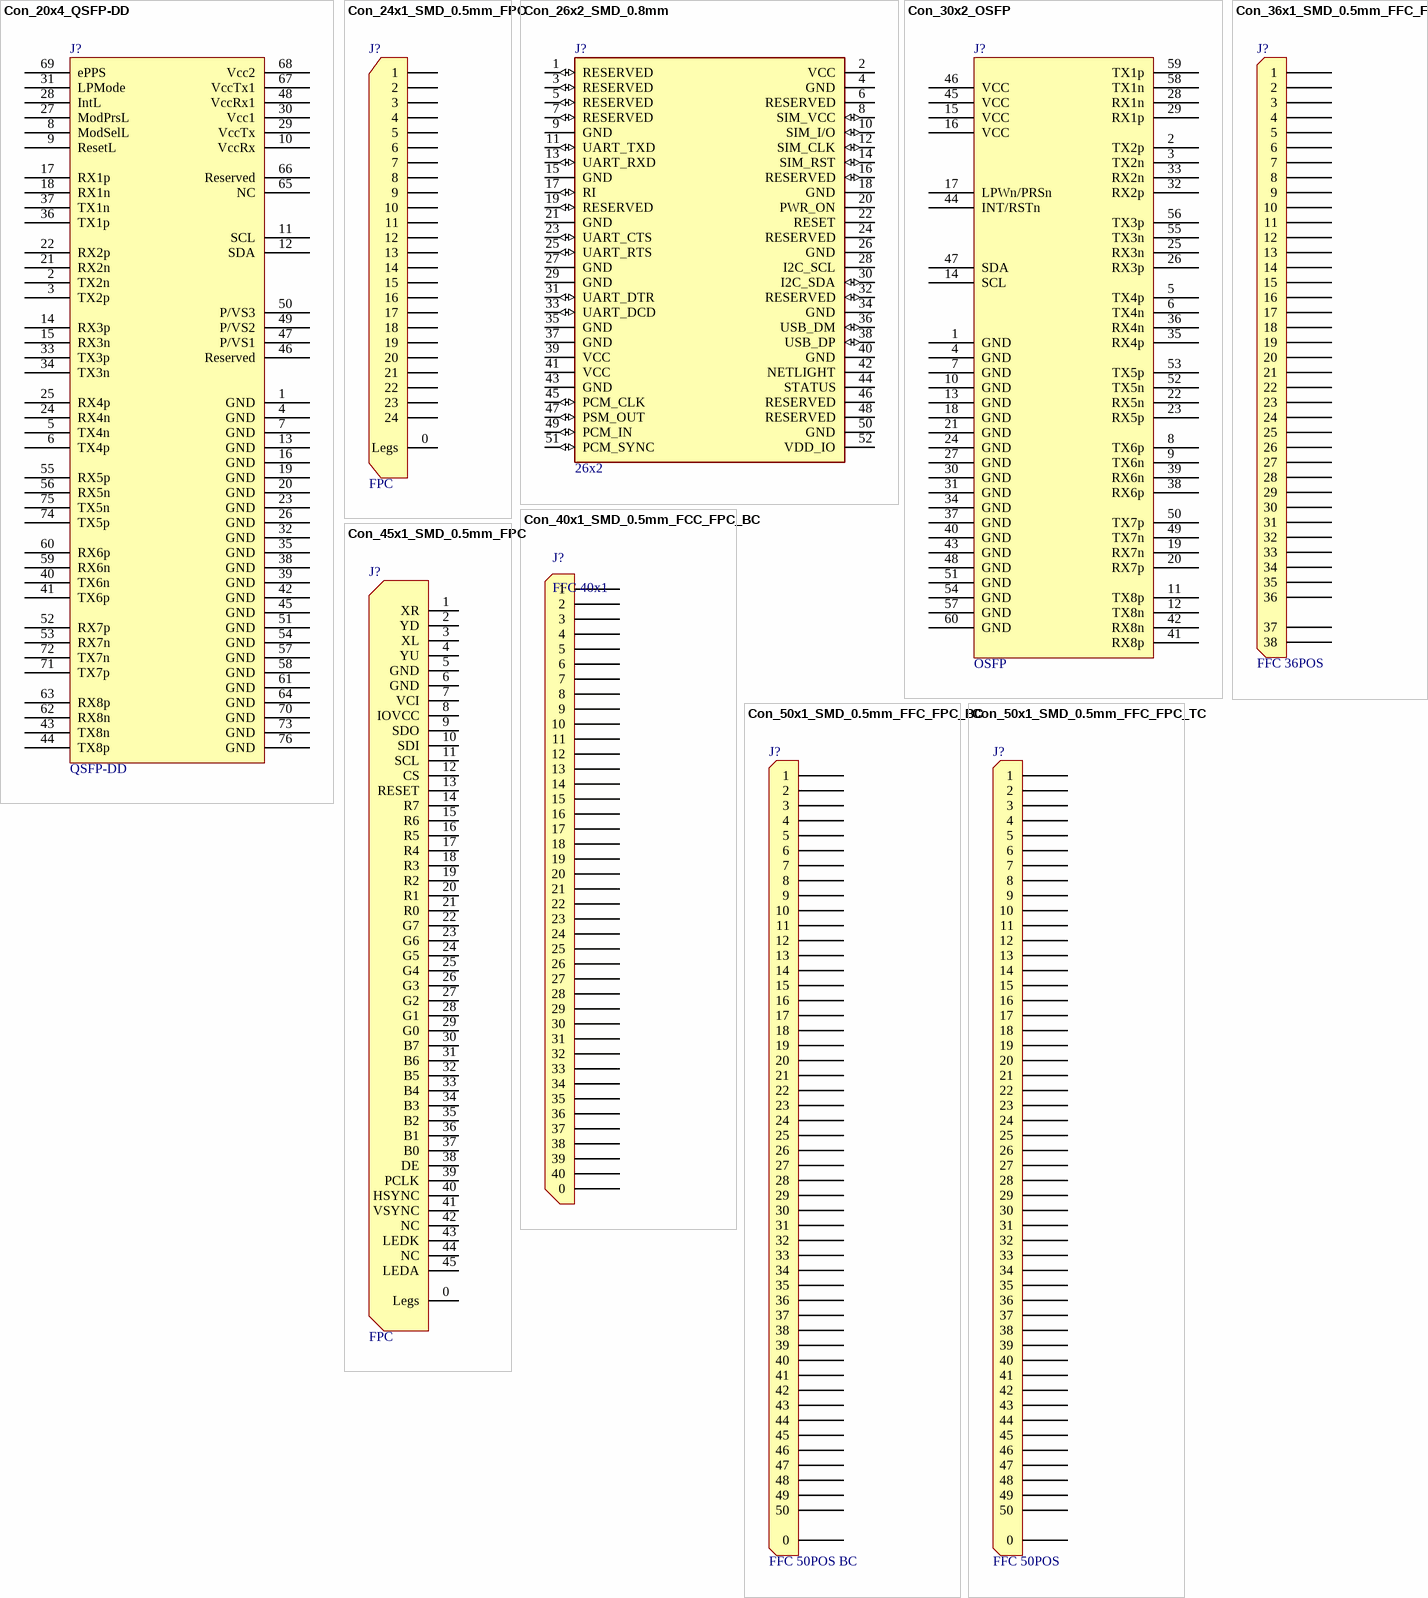
[diagram p4: symbols Con_20x4_QSFP-DD to Con_50x1_SMD_0.5mm_FFC_FPC_TC]

## Con_20x4_QSFP-DD
designator J?, comment QSFP-DD
QSFP DD CONNECTOR SMT, WITH SOLD; Manufacturer: Amphenol ICC (Commercial Products); Manufacturer Part Number: UE36A10702000T; Supplier 1: Digi-key; Supplier Part Number 1: UE36A10702000TCT-ND; Reel Stock: N/A; Last modified by: J.Jaramillo; Last modified date: 20240310; ComponentLink1Description: Digi-key; ComponentLink1URL: https://www.digikey.com/en/products/detail/amphenol-icc-commercial-products/UE36A10702000T/9863802?s=N4IgTCBcDaIKoFEDMA2AggRgAwHYti0IBUQBdAXyA
footprint CON_20x4_QSFP-DD (/20220339/V-A.Patino)
pins: 1 GND, 2 TX2n, 3 TX2p, 4 GND, 5 TX4n, 6 TX4p, 7 GND, 8 ModSelL, 9 ResetL, 10 VccRx, 11 SCL, 12 SDA, 13 GND, 14 RX3p, 15 RX3n, 16 GND, 17 RX1p, 18 RX1n, 19 GND, 20 GND, 21 RX2n, 22 RX2p, 23 GND, 24 RX4n, 25 RX4p, 26 GND, 27 ModPrsL, 28 IntL, 29 VccTx, 30 Vcc1, 31 LPMode, 32 GND, 33 TX3p, 34 TX3n, 35 GND, 36 TX1p, 37 TX1n, 38 GND, 39 GND, 40 TX6n, 41 TX6p, 42 GND, 43 TX8n, 44 TX8p, 45 GND, 46 Reserved, 47 P/VS1, 48 VccRx1, 49 P/VS2, 50 P/VS3, 51 GND, 52 RX7p, 53 RX7n, 54 GND, 55 RX5p, 56 RX5n, 57 GND, 58 GND, 59 RX6n, 60 RX6p, 61 GND, 62 RX8n, 63 RX8p, 64 GND, 65 NC, 66 Reserved, 67 VccTx1, 68 Vcc2, 69 ePPS, 70 GND, 71 TX7p, 72 TX7n, 73 GND, 74 TX5p, 75 TX5n, 76 GND

## Con_24x1_SMD_0.5mm_FPC
designator J?, comment FPC
CONN FFC FPC 24POS 0.50MM R/A; Manufacturer Part Number: 0.5-24P-H1.0-前插后锁; Manufacturer: NA; Supplier Part Number 1: 0.5-24P-H1.0-前插后锁; Supplier 1: Poshton; Last modified date: 20240310; Last modified by: J.Jaramillo; Reel Stock: N/A; ComponentLink1URL: https://www.digikey.com/products/en?keywords=A101401CT-ND
footprint CON_24X1_FPC_AYF532435 (/20200625/N-A.Potosi)
pins: 0 Legs, 1, 2, 3, 4, 5, 6, 7, 8, 9, 10, 11, 12, 13, 14, 15, 16, 17, 18, 19, 20, 21, 22, 23, 24

## Con_26x2_SMD_0.8mm
designator J?, comment 26x2
CONN PCI EXP MINI FEMALE 52POS; Manufacturer: TE Connectivity AMP Connectors; Manufacturer Part Number: 1775862-2; Supplier 1: Digi-key; Supplier Part Number 1: A142273CT-ND; Reel Stock: N/A; Last modified by: J.Jaramillo; Last modified date: 20240310; ComponentLink1Description: Digikey; ComponentLink1URL: https://www.digikey.com/en/products/detail/te-connectivity-amp-connectors/1775862-2/5430585?s=N4IgTCBcDaIIIEYAsYwHYDMBhAKgWgDkAREAXQF8g
footprint CON_26X2_SMD_0.8MM (/20210224/J-E.Pachon)
pins: 1 RESERVED (io), 2 VCC (power), 3 RESERVED (io), 4 GND (power), 5 RESERVED (io), 6 RESERVED (power), 7 RESERVED (io), 8 SIM_VCC (io), 9 GND (power), 10 SIM_I/O (io), 11 UART_TXD (io), 12 SIM_CLK (io), 13 UART_RXD (io), 14 SIM_RST (io), 15 GND (power), 16 RESERVED (io), 17 RI (io), 18 GND (power), 19 RESERVED (io), 20 PWR_ON, 21 GND (power), 22 RESET, 23 UART_CTS (io), 24 RESERVED (power), 25 UART_RTS (io), 26 GND (power), 27 GND (power), 28 I2C_SCL (power), 29 GND (power), 30 I2C_SDA (io), 31 UART_DTR (io), 32 RESERVED (io), 33 UART_DCD (io), 34 GND (power), 35 GND (power), 36 USB_DM (io), 37 GND (power), 38 USB_DP (io), 39 VCC (power), 40 GND (power), 41 VCC (power), 42 NETLIGHT, 43 GND (power), 44 STATUS, 45 PCM_CLK (io), 46 RESERVED, 47 PSM_OUT (io), 48 RESERVED (power), 49 PCM_IN (io), 50 GND (power), 51 PCM_SYNC (io), 52 VDD_IO (power)

## Con_30x2_OSFP
designator J?, comment OSFP
CONN OSFP RCPT 60POS SLD R/A SMD; Manufacturer: TE Connectivity AMP Connectors; Manufacturer Part Number: 2324869-2; Supplier 1: Digi-key; Supplier Part Number 1: A141648CT-ND; Reel Stock: N/A; Last modified by: J.Jaramillo; Last modified date: 20240310; ComponentLink1Description: Digi-key; ComponentLink1URL: https://www.digikey.com/en/products/detail/te-connectivity-amp-connectors/2324869-2/9743321?s=N4IgTCBcDa4MxgCwA4BsBOAtBAugXyA; ComponentLink2Description: Datasheet; ComponentLink2URL: https://www.te.com/commerce/DocumentDelivery/DDEController?Action=srchrtrv&DocNm=2324869&DocType=Customer+Drawing&DocLang=English
footprint CON_30x2_OSFP (/20220329/V-A.Patino)
pins: 1 GND, 2 TX2p, 3 TX2n, 4 GND, 5 TX4p, 6 TX4n, 7 GND, 8 TX6p, 9 TX6n, 10 GND, 11 TX8p, 12 TX8n, 13 GND, 14 SCL, 15 VCC, 16 VCC, 17 LPWn/PRSn, 18 GND, 19 RX7n, 20 RX7p, 21 GND, 22 RX5n, 23 RX5p, 24 GND, 25 RX3n, 26 RX3p, 27 GND, 28 RX1n, 29 RX1p, 30 GND, 31 GND, 32 RX2p, 33 RX2n, 34 GND, 35 RX4p, 36 RX4n, 37 GND, 38 RX6p, 39 RX6n, 40 GND, 41 RX8p, 42 RX8n, 43 GND, 44 INT/RSTn, 45 VCC, 46 VCC, 47 SDA, 48 GND, 49 TX7n, 50 TX7p, 51 GND, 52 TX5n, 53 TX5p, 54 GND, 55 TX3n, 56 TX3p, 57 GND, 58 TX1n, 59 TX1p, 60 GND

## Con_36x1_SMD_0.5mm_FFC_FPC
designator J?, comment FFC 36POS
CONN FFC TOP 36POS 0.50MM R/A; Manufacturer Part Number: FH12A-36S-0.5SH(55); Manufacturer: Hirose Electric Co Ltd; Supplier Part Number 1: HFK136CT-ND; Supplier 1: Digi-Key; ComponentLink1URL: https://www.digikey.com/en/products/detail/hirose-electric-co-ltd/FH12A-36S-0-5SH-55/1110337?s=N4IgTCBcDaIBIDEDSBGAzANgMIBUC0AcgCIgC6AvkA; Last modified date: 20240310; Last modified by: J.Jaramillo; Reel Stock: N/A; ComponentLink1Description: Digi-key; ComponentLink1URL: *
footprint CON_36x1_SMD_0.5mm_FFC (/ 20220629/ F-A.Ospina)
pins: 1, 2, 3, 4, 5, 6, 7, 8, 9, 10, 11, 12, 13, 14, 15, 16, 17, 18, 19, 20, 21, 22, 23, 24, 25, 26, 27, 28, 29, 30, 31, 32, 33, 34, 35, 36, 37, 38

## Con_40x1_SMD_0.5mm_FCC_FPC_BC
designator J?, comment FFC 40x1
CONN FFC BOTTOM 40POS 0.5MM R/A; Manufacturer: Hirose Electric Co Ltd; Manufacturer Part Number: FH12-40S-0.5SH(55); Supplier 1: Digi-Key; Supplier Part Number 1: 26-FH12-40S-0.5SH(55)CT-ND; Reel Stock: N/A; Last modified by: J.Jaramillo; Last modified date: 20240310; ComponentLink1Description: Digi-Key; ComponentLink1URL: https://www.digikey.com/es/products/detail/hirose-electric-co-ltd/FH12-40S-0-5SH-55/1110388
footprint Con_40x1_SMD_0.5mm_FPC (/20230904/J-E.Pachon)
pins: 0, 1, 2, 3, 4, 5, 6, 7, 8, 9, 10, 11, 12, 13, 14, 15, 16, 17, 18, 19, 20, 21, 22, 23, 24, 25, 26, 27, 28, 29, 30, 31, 32, 33, 34, 35, 36, 37, 38, 39, 40

## Con_45x1_SMD_0.5mm_FPC
designator J?, comment FPC
CONN FPC BOTTOM 45POS 0.50MM R/A; Manufacturer Part Number: 62684-451100ALF; Manufacturer: Amphenol ICC (FCI); Supplier Part Number 1: 609-1196-1-ND; Supplier 1: Digi-Key; ComponentLink1URL: https://www.digikey.com/products/en?keywords=609-1196-1-ND; Last modified date: 20240310; Last modified by: J.Jaramillo; Reel Stock: N/A; ComponentLink1Description: Digi-key; ComponentLink1URL: https://www.digikey.com/products/en?keywords=A101401CT-ND
footprint CON_45X1_SMD_0.5MM_FPC (/ 20200722 / C-D Viveros)
pins: 0 Legs, 1 XR, 2 YD, 3 XL, 4 YU, 5 GND, 6 GND, 7 VCI, 8 IOVCC, 9 SDO, 10 SDI, 11 SCL, 12 CS, 13 RESET, 14 R7, 15 R6, 16 R5, 17 R4, 18 R3, 19 R2, 20 R1, 21 R0, 22 G7, 23 G6, 24 G5, 25 G4, 26 G3, 27 G2, 28 G1, 29 G0, 30 B7, 31 B6, 32 B5, 33 B4, 34 B3, 35 B2, 36 B1, 37 B0, 38 DE, 39 PCLK, 40 HSYNC, 41 VSYNC, 42 NC, 43 LEDK, 44 NC, 45 LEDA

## Con_50x1_SMD_0.5mm_FFC_FPC_BC
designator J?, comment FFC 50POS BC
CONN FPC BOTTOM 50POS 0.50MM R/A; Manufacturer Part Number: 62684-501100ALF; Manufacturer: Amphenol ICC; Supplier Part Number 1: 609-1197-1-ND; Supplier 1: Digi-Key; ComponentLink1URL: https://www.digikey.com/products/en?keywords=609-1197-1-ND; Last modified date: 20240310; Last modified by: J.Jaramillo; Reel Stock: N/A; ComponentLink1Description: Digi-key; ComponentLink1URL: *
footprint CON_50x1_SMD_0.5mm_FFC (/ 20190401 / L-A Boulanger)
pins: 0, 1, 2, 3, 4, 5, 6, 7, 8, 9, 10, 11, 12, 13, 14, 15, 16, 17, 18, 19, 20, 21, 22, 23, 24, 25, 26, 27, 28, 29, 30, 31, 32, 33, 34, 35, 36, 37, 38, 39, 40, 41, 42, 43, 44, 45, 46, 47, 48, 49, 50

## Con_50x1_SMD_0.5mm_FFC_FPC_TC
designator J?, comment FFC 50POS
CONN FPC TOP 50POS 0.50MM R/A; Manufacturer Part Number: 62684-502100ALF; Manufacturer: Amphenol ICC (FCI); Supplier Part Number 1: 609-1202-1-ND; Supplier 1: Digi-Key; ComponentLink1URL: https://www.digikey.com/en/products/detail/amphenol-cs-fci/62684-502100ALF/1001516?s=N4IgTCBcDaIGxjgDgCwFoCsAGMBGLWAggDIBiIAugL5A; Last modified date: 20240310; Last modified by: J.Jaramillo; Reel Stock: N/A; ComponentLink1Description: Digi-key; ComponentLink1URL: *
footprint CON_50x1_SMD_0.5mm_FFC (/ 20190401 / L-A Boulanger)
pins: 0, 1, 2, 3, 4, 5, 6, 7, 8, 9, 10, 11, 12, 13, 14, 15, 16, 17, 18, 19, 20, 21, 22, 23, 24, 25, 26, 27, 28, 29, 30, 31, 32, 33, 34, 35, 36, 37, 38, 39, 40, 41, 42, 43, 44, 45, 46, 47, 48, 49, 50

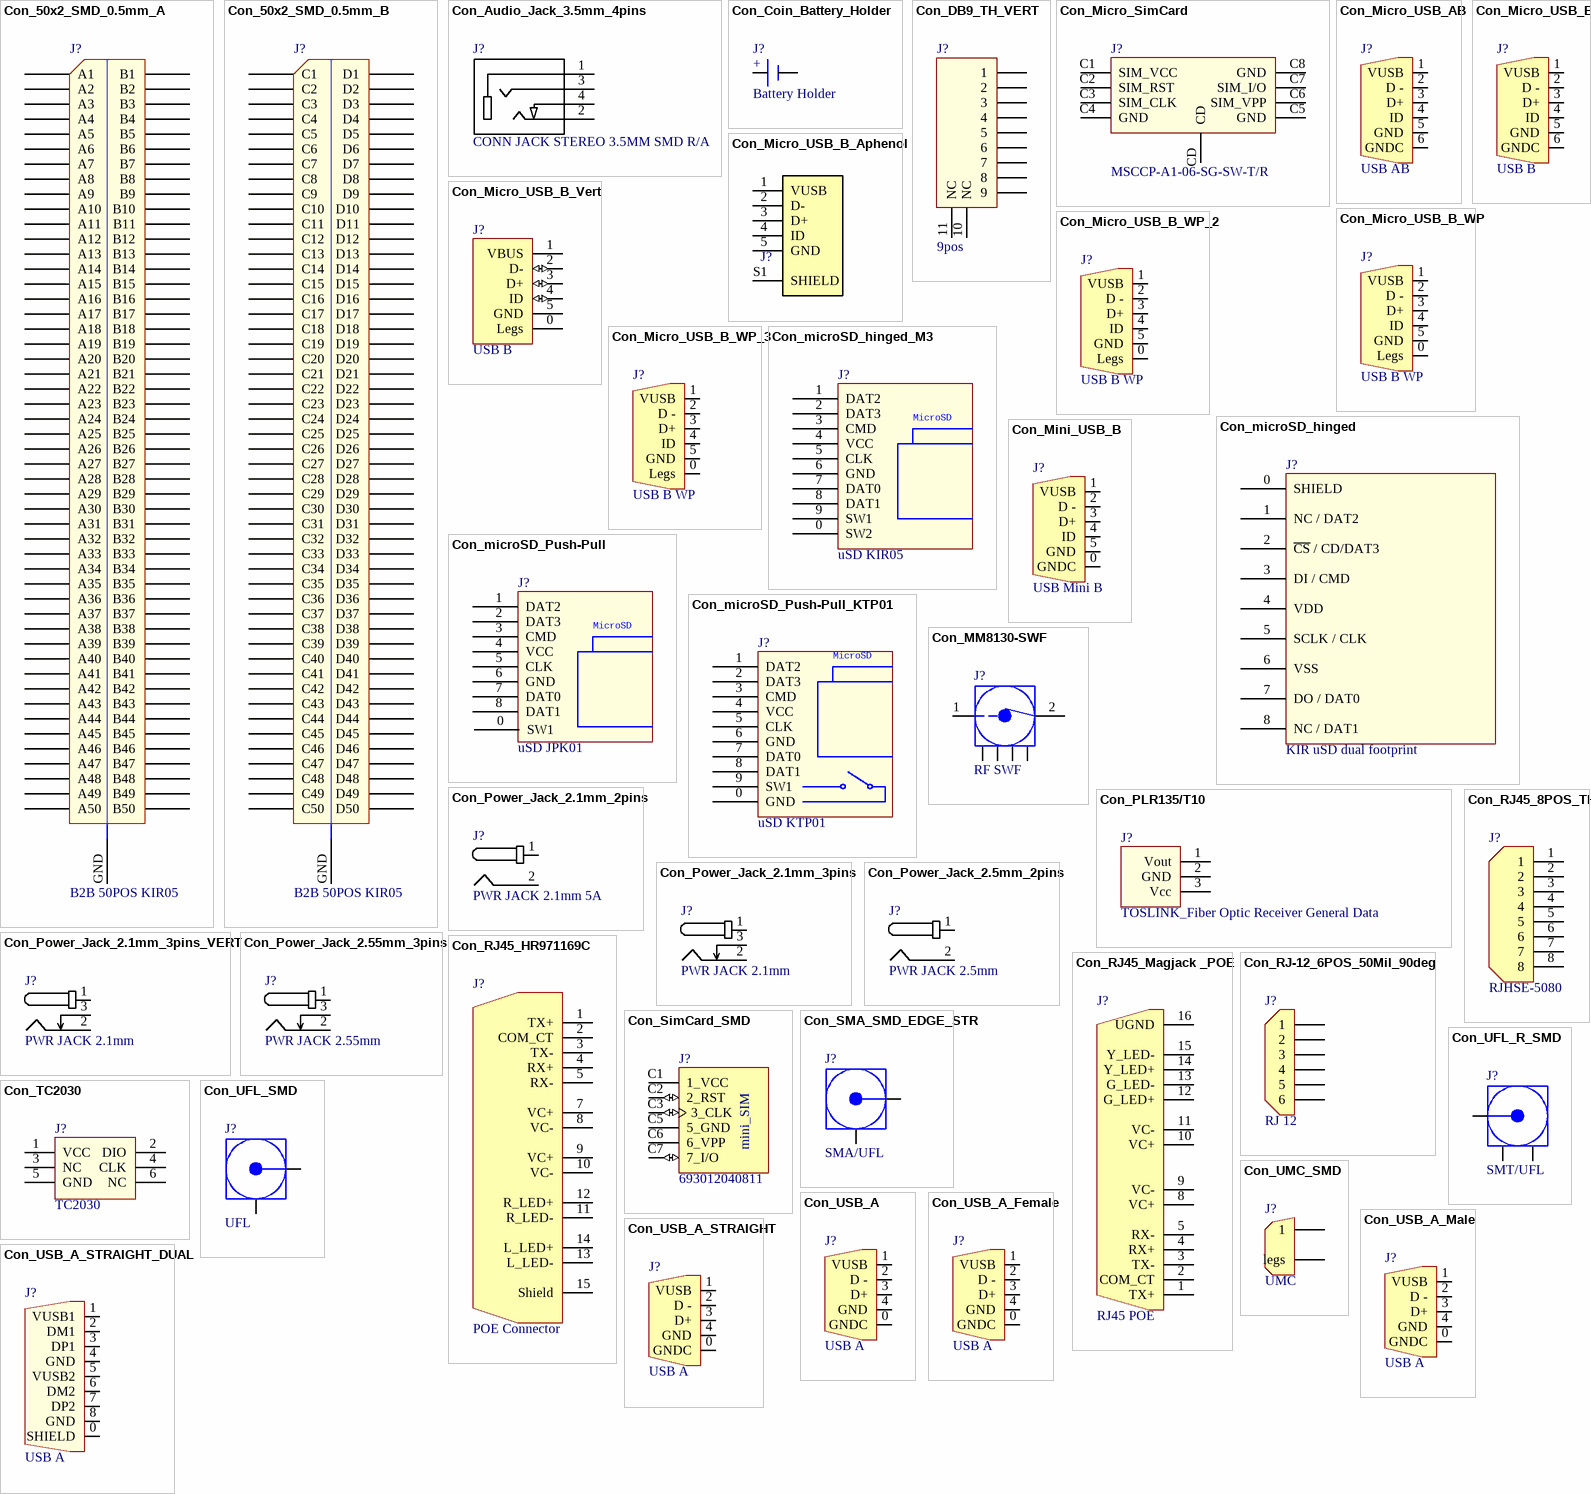
[diagram p5: symbols Con_50x2_SMD_0.5mm_A to Con_USB_A_STRAIGHT_DUAL]

## Con_50x2_SMD_0.5mm_A
designator J?, comment B2B 50POS KIR05
CONN HDR 100POS SMD GOLD; Manufacturer Part Number: FX11LA-100P/10-SV(71); Manufacturer: Hirose Electric Co Ltd; Supplier Part Number 1: H10770-ND; Supplier 1: Digi-Key; ComponentLink1URL: https://www.digikey.com/products/en?keywords=H10770-ND; Last modified date: 20240310; Last modified by: J.Jaramillo; Reel Stock: N/A; ComponentLink1Description: Digi-Key; ComponentLink1URL: https://www.digikey.com/product-detail/en/amphenol-icc-fci/62684-502100/62684-502100-ND/1492943
footprint CON_50X2_SMD_FX11LA-100P/10-SV (Hirose Conn/20200714/N-A.Potosi)
pins: A1, A2, A3, A4, A5, A6, A7, A8, A9, A10, A11, A12, A13, A14, A15, A16, A17, A18, A19, A20, A21, A22, A23, A24, A25, A26, A27, A28, A29, A30, A31, A32, A33, A34, A35, A36, A37, A38, A39, A40, A41, A42, A43, A44, A45, A46, A47, A48, A49, A50, B1, B2, B3, B4, B5, B6, B7, B8, B9, B10, B11, B12, B13, B14, B15, B16, B17, B18, B19, B20, B21, B22, B23, B24, B25, B26, B27, B28, B29, B30, B31, B32, B33, B34, B35, B36, B37, B38, B39, B40, B41, B42, B43, B44, B45, B46, B47, B48, B49, B50, GND

## Con_50x2_SMD_0.5mm_B
designator J?, comment B2B 50POS KIR05
CONN HDR 100POS SMD GOLD; Manufacturer Part Number: FX11LA-100P/10-SV(71); Manufacturer: Hirose Electric Co Ltd; Supplier Part Number 1: H10770-ND; Supplier 1: Digi-Key; ComponentLink1URL: https://www.digikey.com/products/en?keywords=H10770-ND; Last modified date: 20240310; Last modified by: J.Jaramillo; Reel Stock: N/A; ComponentLink1Description: Digi-Key; ComponentLink1URL: https://www.digikey.com/product-detail/en/amphenol-icc-fci/62684-502100/62684-502100-ND/1492943
footprint CON_50X2_SMD_FX11LA-100P/10-SV (Hirose Conn/20200714/N-A.Potosi)
pins: A1 C1, A2 C2, A3 C3, A4 C4, A5 C5, A6 C6, A7 C7, A8 C8, A9 C9, A10 C10, A11 C11, A12 C12, A13 C13, A14 C14, A15 C15, A16 C16, A17 C17, A18 C18, A19 C19, A20 C20, A21 C21, A22 C22, A23 C23, A24 C24, A25 C25, A26 C26, A27 C27, A28 C28, A29 C29, A30 C30, A31 C31, A32 C32, A33 C33, A34 C34, A35 C35, A36 C36, A37 C37, A38 C38, A39 C39, A40 C40, A41 C41, A42 C42, A43 C43, A44 C44, A45 C45, A46 C46, A47 C47, A48 C48, A49 C49, A50 C50, B1 D1, B2 D2, B3 D3, B4 D4, B5 D5, B6 D6, B7 D7, B8 D8, B9 D9, B10 D10, B11 D11, B12 D12, B13 D13, B14 D14, B15 D15, B16 D16, B17 D17, B18 D18, B19 D19, B20 D20, B21 D21, B22 D22, B23 D23, B24 D24, B25 D25, B26 D26, B27 D27, B28 D28, B29 D29, B30 D30, B31 D31, B32 D32, B33 D33, B34 D34, B35 D35, B36 D36, B37 D37, B38 D38, B39 D39, B40 D40, B41 D41, B42 D42, B43 D43, B44 D44, B45 D45, B46 D46, B47 D47, B48 D48, B49 D49, B50 D50, GND

## Con_Audio_Jack_3.5mm_4pins
designator J?, comment CONN JACK STEREO 3.5MM SMD R/A
Manufacturer: CUI Devices; Manufacturer Part Number: SJ-3524-SMT-TR; Supplier 1: Digi-Key; Supplier Part Number 1: CP-3524SJTR-ND; Reel Stock: N/A; Last modified by: J.Jaramillo; Last modified date: 20240310; ComponentLink1Description: Digi-Key; ComponentLink1URL: https://www.digikey.com/en/products/detail/cui-devices/SJ-3524-SMT-TR/281298
footprint CON_JACK_STEREO_SMD_3.5mm (/ 20200727/ M-C.Calderon)
pins: 1, 2, 3, 4

## Con_Coin_Battery_Holder
designator J?, comment Battery Holder
BATTERY RETAINER COIN 20MM SMD; Manufacturer: Harwin Inc.; Manufacturer Part Number: S8211-46R; Last modified date: 20240310; Last modified by: J.Jaramillo; Reel Stock: N/A; ComponentLink1Description: Digi-Key; ComponentLink1URL: https://www.digikey.com.mx/products/es?keywords=952-1735-1-ND; Supplier 1: Digi-Key; Supplier Part Number 1: 952-1735-1-ND
footprint CON_COIN_BATT_HOLDER (/20201001/N-A.Potosi)
pins: 1 +, 2 -

## Con_DB9_TH_VERT
designator J?, comment 9pos
CONN HEADER VERT 16POS 2.54MM; Manufacturer: Amphenol ICC (FCI); Manufacturer Part Number: 10090098-S094VLF; Supplier 1: Digi-Key; Supplier Part Number 1: 609-3996-ND; Reel Stock: N/A; Last modified by: J.Jaramillo; Last modified date: 20240310; ComponentLink1Description: Digi-Key; ComponentLink1URL: https://www.digikey.com/en/products/detail/amphenol-cs-fci/10090098-S094VLF/2346608?s=N4IgTCBcDaIIwAYEE4nIBwFoDKKAsAagDIBiIAugL5A
footprint CON_DB9_TH_VERT (/20220603/F-A.Ospina)
pins: 1, 2, 3, 4, 5, 6, 7, 8, 9, 10 NC, 11 NC

## Con_Micro_SimCard
designator J?, comment MSCCP-A1-06-SG-SW-T/R
MINI SIM CARD CONNECTOR; Manufacturer: Adam Tech; Manufacturer Part Number: MSCCP-A1-06-SG-SW-T/R; Supplier 1: Digikey; Supplier Part Number 1: 2057-MSCCP-A1-06-SG-SW-T/RCT-ND; Reel Stock: N/A; Last modified by: J.Jaramillo; Last modified date: 20240310; ComponentLink1Description: Digikey; ComponentLink1URL: https://www.digikey.com/en/products/detail/adam-tech/MSCCP-A1-06-SG-SW-T-R/11689344?s=N4IgTCBcDa4AwFYDsBaAsgZQMJYAooEEBGFOANhQwHFKB1FAFQHoAlLBlAOQBEQBdAL5A
footprint CON_MICRO_SIMCARD (/20210224/J-E.Pachon)
pins: C1 SIM_VCC, C2 SIM_RST, C3 SIM_CLK, C4 GND, C5 GND, C6 SIM_VPP, C7 SIM_I/O, C8 GND, CD

## Con_Micro_USB_AB
designator J?, comment USB AB
CONN RCPT MICRO USB AB R/A SMD; Manufacturer Part Number: 0475890001; Manufacturer: Molex; Supplier 1: Digi-Key; Supplier Part Number 1: WM17143CT-ND; Last modified by: J.Jaramillo; Last modified date: 20240310; Reel Stock: N/A; ComponentLink1Description: Digi-Key; ComponentLink1URL: https://www.digikey.com/product-detail/en/molex-llc/0475890001/WM17143CT-ND/1832255
footprint CON_5x1_SMD_microUSB_AB (/ 20190222 / C-A.Serna.A)
pins: 1 VUSB, 2 D -, 3 D+, 4 ID, 5 GND, 6 GNDC

## Con_Micro_USB_B
designator J?, comment USB B
CONN RCPT USB2.0 MICRO B SMD R/A; Manufacturer Part Number: 10118194-0001LF; Manufacturer: Amphenol ICC (FCI); Supplier 1: Digi-Key; Supplier Part Number 1: 609-4618-1-ND; Last modified by: J.Jaramillo; Last modified date: 20240310; Reel Stock: N/A; ComponentLink1Description: Digi-Key; ComponentLink1URL: https://www.digikey.com/products/en?keywords=609-4618-1-ND
footprint CON_5x1_SMD_microUSB2.0_B (/ 20191206/ C-D Viveros)
pins: 1 VUSB, 2 D -, 3 D+, 4 ID, 5 GND, 6 GNDC

## Con_Micro_USB_B_Aphenol
designator J?, comment USB B  (value not drawn)
CONN RCPT USB2.0 MICRO B SMD R/A; Manufacturer Part Number: 10118194-0001LF; Manufacturer: Amphenol ICC (FCI); Supplier 1: Digi-Key; Supplier Part Number 1: 609-4618-1-ND; Last modified by: J.Jaramillo; Last modified date: 20240310; Reel Stock: N/A; ComponentLink1Description: Digi-Key; ComponentLink1URL: https://www.digikey.com/products/en?keywords=609-4618-1-ND
footprint Micro USB C Connector_10118193-0001LF (/20240316/J.Jaramillo)
pins: 1 VUSB, 2 D-, 3 D+, 4 ID, 5 GND, S1 SHIELD

## Con_Micro_USB_B_Vert
designator J?, comment USB B
CONN RCPT USB2.0 MICRO B SMD; Manufacturer: Molex; Manufacturer Part Number: 1051330001; Supplier 1: Digi-Key; Supplier Part Number 1: WM9734CT-ND; Reel Stock: N/A; Last modified by: J.Jaramillo; Last modified date: 20240310; ComponentLink1Description: Digi-Key; ComponentLink1URL: https://www.digikey.com/en/products/detail/molex/1051330001/3313407
footprint CON_5X1_SMD_MICROUSB2.0_B_VERT (20220117 / E.Naranjo)
pins: 0 Legs, 1 VBUS (power), 2 D- (io), 3 D+ (io), 4 ID (io), 5 GND (power)

## Con_Micro_USB_B_WP
designator J?, comment USB B WP
SPLASH WATERPROOF MICROUSB B TYP; Manufacturer: Amphenol ICC (Commercial Products); Manufacturer Part Number: GMCBA058211230HHR; Supplier 1: Digikey; Supplier Part Number 1: GMCBA058211230HHRCT-ND; Reel Stock: N/A; Last modified by: J.Jaramillo; Last modified date: 20240310; ComponentLink1Description: Digikey; ComponentLink1URL: https://www.digikey.com/en/products/detail/amphenol-icc-commercial-products/GMCBA058211230HHR/9825360
footprint CON_5x1_SMD_microUSB2.0_B_WP (/20210105/J-E.Pachon)
pins: 0 Legs, 1 VUSB, 2 D -, 3 D+, 4 ID, 5 GND

## Con_Micro_USB_B_WP_2
designator J?, comment USB B WP
CONN RCPT USB2.0 MICRO B SMD R/A; Manufacturer: CUI Devices; Manufacturer Part Number: UJ2-MIBH-4-SMT-TR-67; Supplier 1: Digikey; Supplier Part Number 1: 102-4970-1-ND; Reel Stock: N/A; Last modified by: J.Jaramillo; Last modified date: 20240310; ComponentLink1Description: Digikey; ComponentLink1URL: https://www.digikey.com/en/products/detail/cui-devices/UJ2-MIBH-4-SMT-TR-67/9564429?s=N4IgTCBcDaIKoCkwFoCyBJAQgCWQFmQGVUAVZEgJWQDYB2EAXQF8g
footprint CON_5x1_SMD_microUSB2.0_B_WP_2 (/20210216/J-E.Pachon)
pins: 0 Legs, 1 VUSB, 2 D -, 3 D+, 4 ID, 5 GND

## Con_Micro_USB_B_WP_3
designator J?, comment USB B WP
CONN RCPT USB2.0 MICRO B SMD R/A; Manufacturer: Conn-Link Technology Inc.; Manufacturer Part Number: CWPC-R05RSG0-M1; Supplier 1: Poshton; Supplier Part Number 1: CWPC-R05RSG0-M1; Reel Stock: N/A; Last modified by: J.Jaramillo; Last modified date: 20240310; ComponentLink1Description: Link; ComponentLink1URL: https://www.conn-link.com.tw/products/26
footprint CON_5x1_SMD_microUSB2.0_B_WP_3 (/20220223/J-E.Pachon)
pins: 0 Legs, 1 VUSB, 2 D -, 3 D+, 4 ID, 5 GND

## Con_microSD_hinged
designator J?, comment KIR uSD dual footprint
CONN MICRO SD CARD HINGED TYPE; Manufacturer: JAE Electronics; Manufacturer Part Number: ST1W008S4ER1500; Last modified date: 20240310; Last modified by: J.Jaramillo; Reel Stock: N/A; ComponentLink1Description: Digi-Key; ComponentLink1URL: https://www.digikey.com/en/products/detail/jae-electronics/ST1W008S4ER1500/1284037?s=N4IgTCBcDaIMoBUCMB1ADGgHHALAUQCUkBWDEAXQF8g; Supplier 1: Digi-Key; Supplier Part Number 1: 670-1528-1-ND
footprint CON_MICROSD_HINGE (/ 20190401 / L-A Boulanger)
pins: 0 SHIELD , 1 NC / DAT2, 2 ~{CS} / CD/DAT3, 3 DI / CMD, 4 VDD (power), 5 SCLK / CLK, 6 VSS (power), 7 DO / DAT0, 8 NC / DAT1

## Con_microSD_hinged_M3
designator J?, comment uSD KIR05
CONN MICRO SD CARD HINGED TYPE +SW; Manufacturer: Hirose Electric Co Ltd; Manufacturer Part Number: DM3CS-SF; Last modified date: 20240310; Last modified by: J.Jaramillo; Reel Stock: N/A; ComponentLink1Description: Digi-Key; ComponentLink1URL: https://www.digikey.com/products/en/connectors-interconnects/memory-connectors-pc-card-sockets/414?k=DM3CS-SF&k=&pkeyword=DM3CS-SF&sv=0&pv7=2&sf=0&quantity=&ColumnSort=0&page=1&pageSize=25; Supplier 1: Digi-Key; Supplier Part Number 1: HR1972CT-ND
footprint CON_MICROSD_HINGED_M3 (/20200714/N-A.Potosi)
pins: 0 SW2, 1 DAT2, 2 DAT3, 3 CMD, 4 VCC, 5 CLK, 6 GND, 7 DAT0, 8 DAT1, 9 SW1
text: MicroSD

## Con_microSD_Push-Pull
designator J?, comment uSD JPK01
CONN MICRO SD CARD PUSH-PULL R/A; Manufacturer: Molex; Manufacturer Part Number: 1040310811; Last modified date: 20240310; Last modified by: J.Jaramillo; Reel Stock: N/A; ComponentLink1Description: Digi-Key; ComponentLink1URL: https://www.digikey.com/en/products/detail/molex/1040310811/2370379?s=N4IgTCBcDaIOoFkBsBmArAdgMIBUC0AcgCIgC6AvkA; Supplier 1: Digi-Key; Supplier Part Number 1: WM6357CT-ND
footprint CON_MICROSD_PUSH-PULL (/20201014/J-E.Pachon)
pins: 0 SW1, 1 DAT2, 2 DAT3, 3 CMD, 4 VCC, 5 CLK, 6 GND, 7 DAT0, 8 DAT1
text: MicroSD

## Con_microSD_Push-Pull_KTP01
designator J?, comment uSD KTP01
CONN MICRO SD CARD PUSH-PULL R/A; Manufacturer: Molex; Manufacturer Part Number: 1040310811; Last modified date: 20240310; Last modified by: J.Jaramillo; Reel Stock: N/A; ComponentLink1Description: Digi-Key; ComponentLink1URL: https://www.digikey.com/en/products/detail/molex/1040310811/2370379?s=N4IgTCBcDaIOoFkBsBmArAdgMIBUC0AcgCIgC6AvkA; Supplier 1: Digi-Key; Supplier Part Number 1: WM6357CT-ND
footprint CON_MICROSD_PUSH-PULL_KTP01 (/20220721/F-A.Ospina)
pins: 0 GND, 1 DAT2, 2 DAT3, 3 CMD, 4 VCC, 5 CLK, 6 GND, 7 DAT0, 8 DAT1, 9 SW1
text: MicroSD

## Con_Mini_USB_B
designator J?, comment USB Mini B
CONN RCPT USB2.0 MINI B SMD R/A; Manufacturer Part Number: 690-005-299-043; Manufacturer: EDAC Inc.; Last modified by: J.Jaramillo; Last modified date: 20240310; Reel Stock: N/A; ComponentLink1Description: Digi-Key; ComponentLink1URL: https://www.digikey.com/products/en?keywords=151-1206-1-ND; Supplier 1: Digi-Key; Supplier Part Number 1: 151-1206-1-ND
footprint CON_5x1_SMD_miniUSB_B (20190328 / V-A.Patino)
pins: 0 GNDC, 1 VUSB, 2 D -, 3 D+, 4 ID, 5 GND

## Con_MM8130-SWF
designator J?, comment RF SWF
CONN SWF RCPT STR 50 OHM SMD; Manufacturer: Murata Electronics; Manufacturer Part Number: MM8130-2600RB8; Supplier 1: Digi-key; Supplier Part Number 1: 490-8450-1-ND; Last modified by: J.Jaramillo; Last modified date: 20240310; ComponentLink1Description: Digi-key; ComponentLink1URL: https://www.digikey.com/products/en?keywords=490-8450-1-ND; Reel Stock: N/A
footprint CON_MM8130-2600RB8
pins: 1 IN, 2 OUT, 3 GND (power), 4 GND (power), 5 GND (power), 6 GND (power)